# Altium schematic symbol library SCH - MCU - STM32 - ST MICROELECTRONICS STM32MP151AACX TFBGA361.SchLib: 1 symbol
Pins are listed as number, name and electrical type; pins without a type are passive.

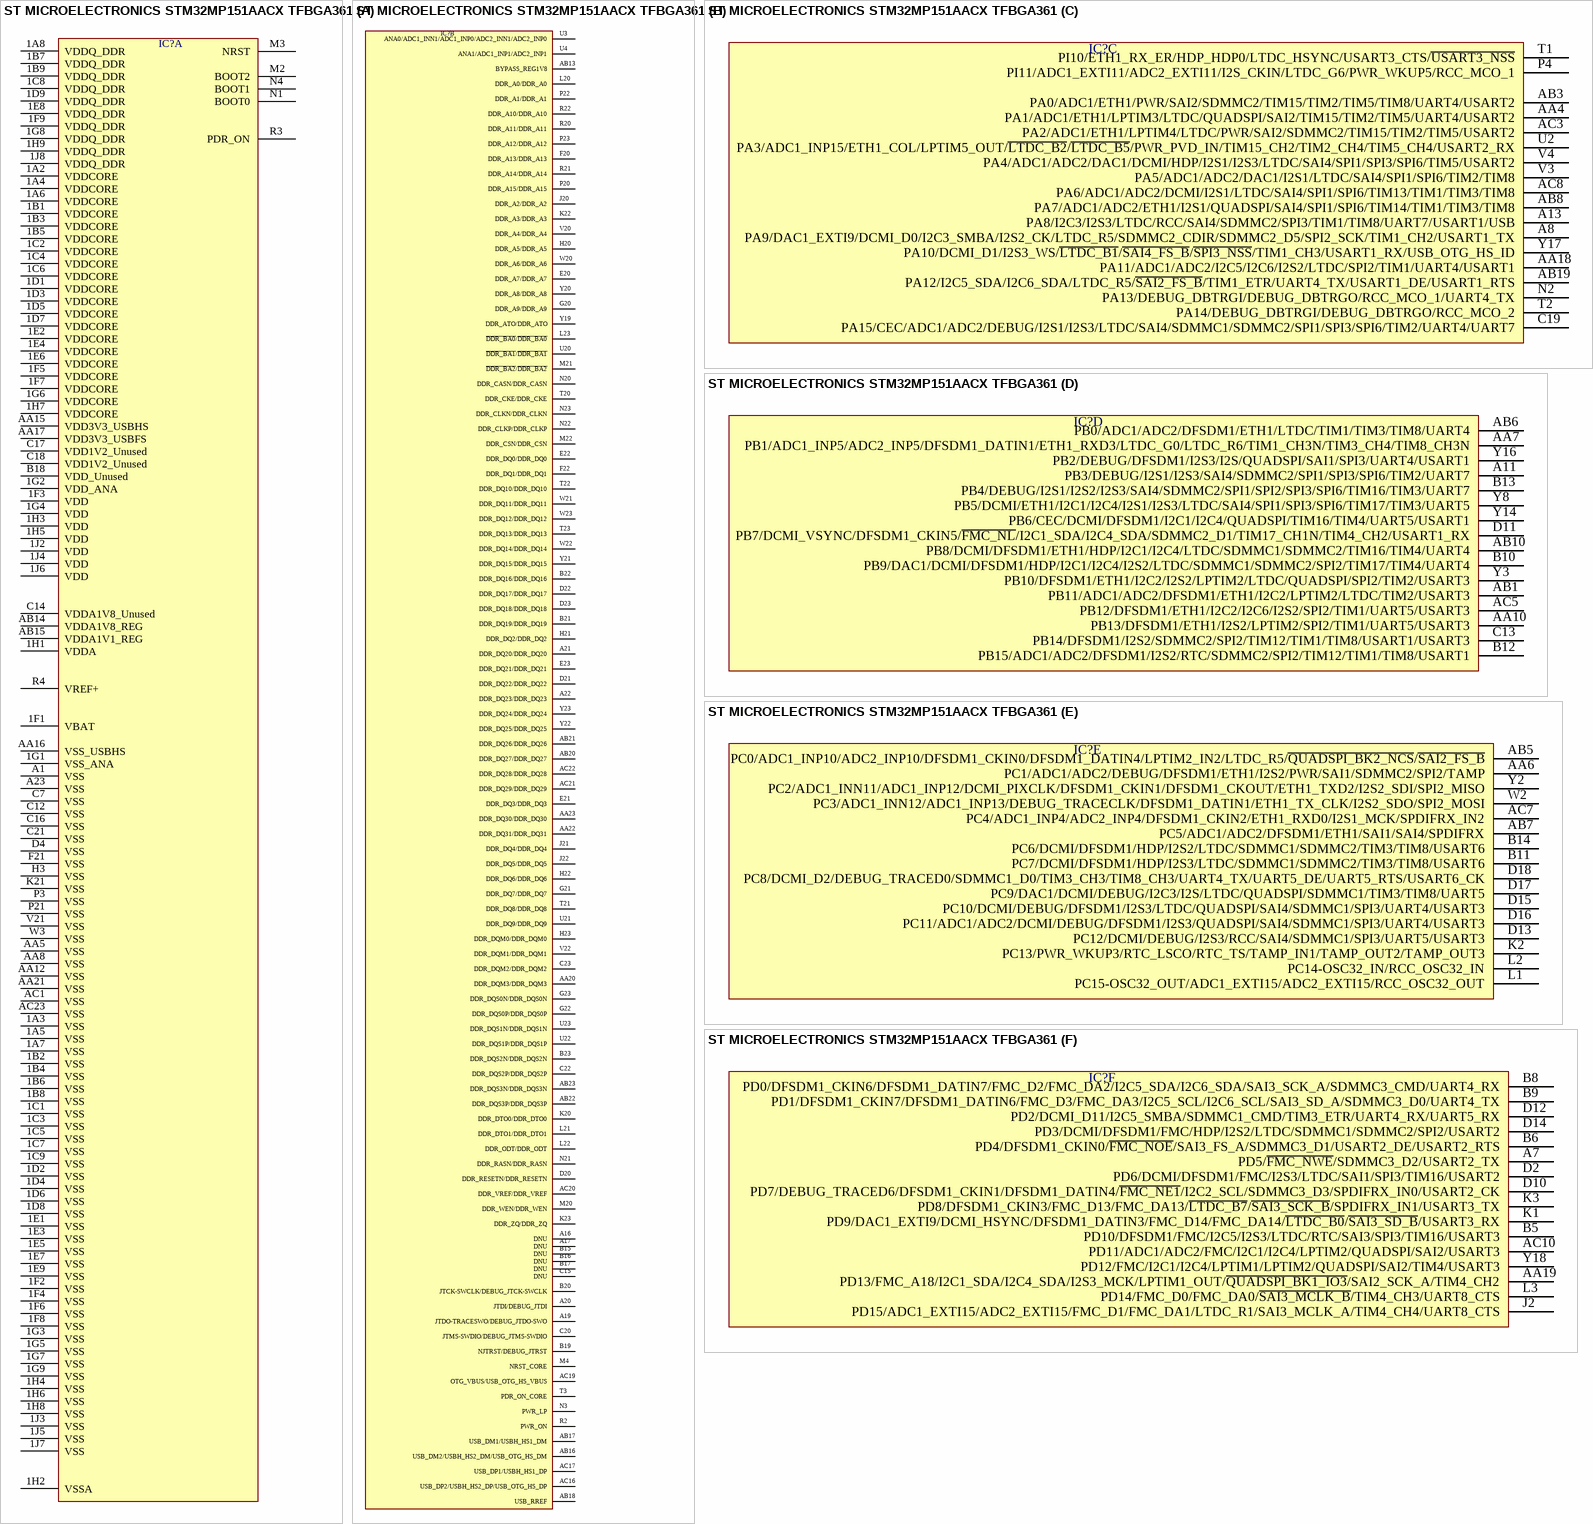
[diagram p0: symbol ST MICROELECTRONICS STM32MP151AACX TFBGA361]

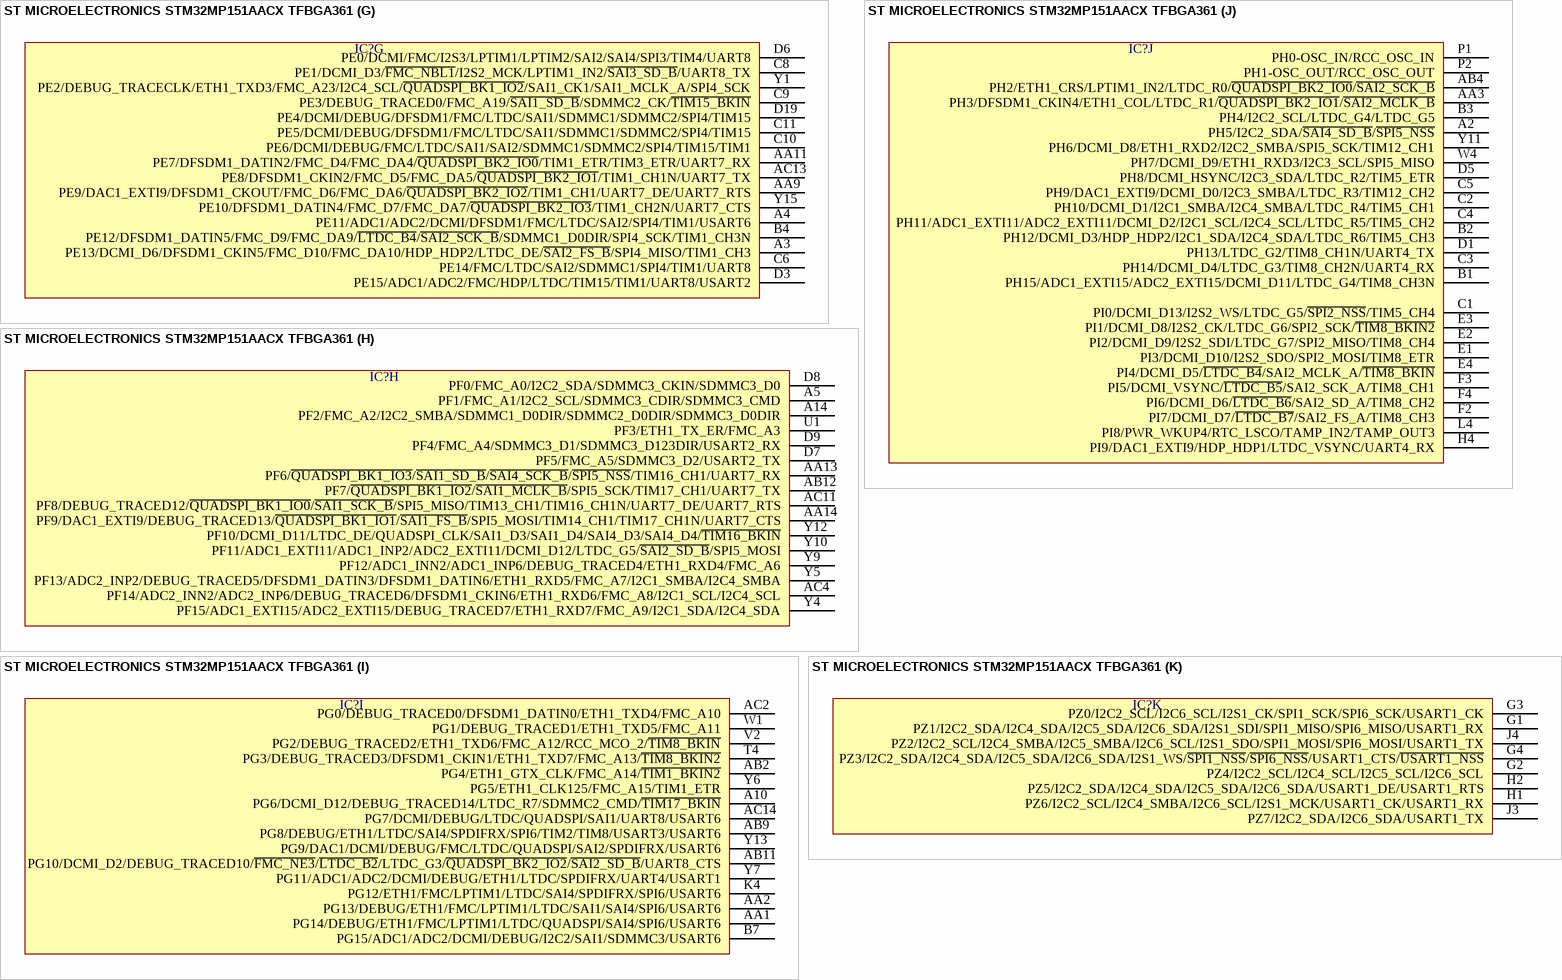
[diagram p1: symbol ST MICROELECTRONICS STM32MP151AACX TFBGA361]

## ST MICROELECTRONICS STM32MP151AACX TFBGA361
designator IC?  (value not drawn)
part A pins: 1A2 VDDCORE, 1A3 VSS, 1A4 VDDCORE, 1A5 VSS, 1A6 VDDCORE, 1A7 VSS, 1A8 VDDQ_DDR, 1B1 VDDCORE, 1B2 VSS, 1B3 VDDCORE, 1B4 VSS, 1B5 VDDCORE, 1B6 VSS, 1B7 VDDQ_DDR, 1B8 VSS, 1B9 VDDQ_DDR, 1C1 VSS, 1C2 VDDCORE, 1C3 VSS, 1C4 VDDCORE, 1C5 VSS, 1C6 VDDCORE, 1C7 VSS, 1C8 VDDQ_DDR, 1C9 VSS, 1D1 VDDCORE, 1D2 VSS, 1D3 VDDCORE, 1D4 VSS, 1D5 VDDCORE, 1D6 VSS, 1D7 VDDCORE, 1D8 VSS, 1D9 VDDQ_DDR, 1E1 VSS, 1E2 VDDCORE, 1E3 VSS, 1E4 VDDCORE, 1E5 VSS, 1E6 VDDCORE, 1E7 VSS, 1E8 VDDQ_DDR, 1E9 VSS, 1F1 VBAT, 1F2 VSS, 1F3 VDD, 1F4 VSS, 1F5 VDDCORE, 1F6 VSS, 1F7 VDDCORE, 1F8 VSS, 1F9 VDDQ_DDR, 1G1 VSS_ANA, 1G2 VDD_ANA, 1G3 VSS, 1G4 VDD, 1G5 VSS, 1G6 VDDCORE, 1G7 VSS, 1G8 VDDQ_DDR, 1G9 VSS, 1H1 VDDA, 1H2 VSSA, 1H3 VDD, 1H4 VSS, 1H5 VDD, 1H6 VSS, 1H7 VDDCORE, 1H8 VSS, 1H9 VDDQ_DDR, 1J2 VDD, 1J3 VSS, 1J4 VDD, 1J5 VSS, 1J6 VDD, 1J7 VSS, 1J8 VDDQ_DDR, A1 VSS, A23 VSS, AA5 VSS, AA8 VSS, AA12 VSS, AA15 VDD3V3_USBHS, AA16 VSS_USBHS, AA17 VDD3V3_USBFS, AA21 VSS, AB14 VDDA1V8_REG, AB15 VDDA1V1_REG, AC1 VSS, AC23 VSS, B18 VDD_Unused, C7 VSS, C12 VSS, C14 VDDA1V8_Unused, C16 VSS, C17 VDD1V2_Unused, C18 VDD1V2_Unused, C21 VSS, D4 VSS, F21 VSS, H3 VSS, K21 VSS, M2 BOOT2, M3 NRST, N1 BOOT0, N4 BOOT1, P3 VSS, P21 VSS, R3 PDR_ON, R4 VREF+, V21 VSS, W3 VSS
part B pins: A16 DNU, A17 DNU, A19 JTDO-TRACESWO/DEBUG_JTDO-SWO, A20 JTDI/DEBUG_JTDI, A21 DDR_DQ20/DDR_DQ20, A22 DDR_DQ23/DDR_DQ23, AA20 DDR_DQM3/DDR_DQM3, AA22 DDR_DQ31/DDR_DQ31, AA23 DDR_DQ30/DDR_DQ30, AB13 BYPASS_REG1V8, AB16 USB_DM2/USBH_HS2_DM/USB_OTG_HS_DM, AB17 USB_DM1/USBH_HS1_DM, AB18 USB_RREF, AB20 DDR_DQ27/DDR_DQ27, AB21 DDR_DQ26/DDR_DQ26, AB22 DDR_DQS3P/DDR_DQS3P, AB23 DDR_DQS3N/DDR_DQS3N, AC16 USB_DP2/USBH_HS2_DP/USB_OTG_HS_DP, AC17 USB_DP1/USBH_HS1_DP, AC19 OTG_VBUS/USB_OTG_HS_VBUS, AC20 DDR_VREF/DDR_VREF, AC21 DDR_DQ29/DDR_DQ29, AC22 DDR_DQ28/DDR_DQ28, B15 DNU, B16 DNU, B17 DNU, B19 NJTRST/DEBUG_JTRST, B20 JTCK-SWCLK/DEBUG_JTCK-SWCLK, B21 DDR_DQ19/DDR_DQ19, B22 DDR_DQ16/DDR_DQ16, B23 DDR_DQS2N/DDR_DQS2N, C15 DNU, C20 JTMS-SWDIO/DEBUG_JTMS-SWDIO, C22 DDR_DQS2P/DDR_DQS2P, C23 DDR_DQM2/DDR_DQM2, D20 DDR_RESETN/DDR_RESETN, D21 DDR_DQ22/DDR_DQ22, D22 DDR_DQ17/DDR_DQ17, D23 DDR_DQ18/DDR_DQ18, E20 DDR_A7/DDR_A7, E21 DDR_DQ3/DDR_DQ3, E22 DDR_DQ0/DDR_DQ0, E23 DDR_DQ21/DDR_DQ21, F20 DDR_A13/DDR_A13, F22 DDR_DQ1/DDR_DQ1, G20 DDR_A9/DDR_A9, G21 DDR_DQ7/DDR_DQ7, G22 DDR_DQS0P/DDR_DQS0P, G23 DDR_DQS0N/DDR_DQS0N, H20 DDR_A5/DDR_A5, H21 DDR_DQ2/DDR_DQ2, H22 DDR_DQ6/DDR_DQ6, H23 DDR_DQM0/DDR_DQM0, J20 DDR_A2/DDR_A2, J21 DDR_DQ4/DDR_DQ4, J22 DDR_DQ5/DDR_DQ5, K20 DDR_DTO0/DDR_DTO0, K22 DDR_A3/DDR_A3, K23 DDR_ZQ/DDR_ZQ, L20 DDR_A0/DDR_A0, L21 DDR_DTO1/DDR_DTO1, L22 DDR_ODT/DDR_ODT, L23 ~{DDR_BA0}/~{DDR_BA0}, M4 NRST_CORE, M20 DDR_WEN/DDR_WEN, M21 ~{DDR_BA2}/~{DDR_BA2}, M22 DDR_CSN/DDR_CSN, N3 PWR_LP, N20 DDR_CASN/DDR_CASN, N21 DDR_RASN/DDR_RASN, N22 DDR_CLKP/DDR_CLKP, N23 DDR_CLKN/DDR_CLKN, P20 DDR_A15/DDR_A15, P22 DDR_A1/DDR_A1, P23 DDR_A12/DDR_A12, R2 PWR_ON, R20 DDR_A11/DDR_A11, R21 DDR_A14/DDR_A14, R22 DDR_A10/DDR_A10, T3 PDR_ON_CORE, T20 DDR_CKE/DDR_CKE, T21 DDR_DQ8/DDR_DQ8, T22 DDR_DQ10/DDR_DQ10, T23 DDR_DQ13/DDR_DQ13, U3 ANA0/ADC1_INN1/ADC1_INP0/ADC2_INN1/ADC2_INP0, U4 ANA1/ADC1_INP1/ADC2_INP1, U20 ~{DDR_BA1}/~{DDR_BA1}, U21 DDR_DQ9/DDR_DQ9, U22 DDR_DQS1P/DDR_DQS1P, U23 DDR_DQS1N/DDR_DQS1N, V20 DDR_A4/DDR_A4, V22 DDR_DQM1/DDR_DQM1, W20 DDR_A6/DDR_A6, W21 DDR_DQ11/DDR_DQ11, W22 DDR_DQ14/DDR_DQ14, W23 DDR_DQ12/DDR_DQ12, Y19 DDR_ATO/DDR_ATO, Y20 DDR_A8/DDR_A8, Y21 DDR_DQ15/DDR_DQ15, Y22 DDR_DQ25/DDR_DQ25, Y23 DDR_DQ24/DDR_DQ24
part C pins: A8 PA9/DAC1_EXTI9/DCMI_D0/I2C3_SMBA/I2S2_CK/LTDC_R5/SDMMC2_CDIR/SDMMC2_D5/SPI2_SCK/TIM1_CH2/USART1_TX, A13 PA8/I2C3/I2S3/LTDC/RCC/SAI4/SDMMC2/SPI3/TIM1/TIM8/UART7/USART1/USB, AA4 PA1/ADC1/ETH1/LPTIM3/LTDC/QUADSPI/SAI2/TIM15/TIM2/TIM5/UART4/USART2, AA18 PA11/ADC1/ADC2/I2C5/I2C6/I2S2/LTDC/SPI2/TIM1/UART4/USART1, AB3 PA0/ADC1/ETH1/PWR/SAI2/SDMMC2/TIM15/TIM2/TIM5/TIM8/UART4/USART2, AB8 PA7/ADC1/ADC2/ETH1/I2S1/QUADSPI/SAI4/SPI1/SPI6/TIM14/TIM1/TIM3/TIM8, AB19 PA12/I2C5_SDA/I2C6_SDA/LTDC_R5/~{SAI2_FS_B}/TIM1_ETR/UART4_TX/USART1_DE/USART1_RTS, AC3 PA2/ADC1/ETH1/LPTIM4/LTDC/PWR/SAI2/SDMMC2/TIM15/TIM2/TIM5/USART2, AC8 PA6/ADC1/ADC2/DCMI/I2S1/LTDC/SAI4/SPI1/SPI6/TIM13/TIM1/TIM3/TIM8, C19 PA15/CEC/ADC1/ADC2/DEBUG/I2S1/I2S3/LTDC/SAI4/SDMMC1/SDMMC2/SPI1/SPI3/SPI6/TIM2/UART4/UART7, N2 PA13/DEBUG_DBTRGI/DEBUG_DBTRGO/RCC_MCO_1/UART4_TX, P4 PI11/ADC1_EXTI11/ADC2_EXTI11/I2S_CKIN/LTDC_G6/PWR_WKUP5/RCC_MCO_1, T1 PI10/ETH1_RX_ER/HDP_HDP0/LTDC_HSYNC/USART3_CTS/~{USART3_NSS}, T2 PA14/DEBUG_DBTRGI/DEBUG_DBTRGO/RCC_MCO_2, U2 PA3/ADC1_INP15/ETH1_COL/LPTIM5_OUT/~{LTDC_B2}/~{LTDC_B5}/PWR_PVD_IN/TIM15_CH2/TIM2_CH4/TIM5_CH4/USART2_RX, V3 PA5/ADC1/ADC2/DAC1/I2S1/LTDC/SAI4/SPI1/SPI6/TIM2/TIM8, V4 PA4/ADC1/ADC2/DAC1/DCMI/HDP/I2S1/I2S3/LTDC/SAI4/SPI1/SPI3/SPI6/TIM5/USART2, Y17 PA10/DCMI_D1/I2S3_WS/~{LTDC_B1}/~{SAI4_FS_B}/~{SPI3_NSS}/TIM1_CH3/USART1_RX/USB_OTG_HS_ID
part D pins: A11 PB3/DEBUG/I2S1/I2S3/SAI4/SDMMC2/SPI1/SPI3/SPI6/TIM2/UART7, AA7 PB1/ADC1_INP5/ADC2_INP5/DFSDM1_DATIN1/ETH1_RXD3/LTDC_G0/LTDC_R6/TIM1_CH3N/TIM3_CH4/TIM8_CH3N, AA10 PB13/DFSDM1/ETH1/I2S2/LPTIM2/SPI2/TIM1/UART5/USART3, AB1 PB11/ADC1/ADC2/DFSDM1/ETH1/I2C2/LPTIM2/LTDC/TIM2/USART3, AB6 PB0/ADC1/ADC2/DFSDM1/ETH1/LTDC/TIM1/TIM3/TIM8/UART4, AB10 PB8/DCMI/DFSDM1/ETH1/HDP/I2C1/I2C4/LTDC/SDMMC1/SDMMC2/TIM16/TIM4/UART4, AC5 PB12/DFSDM1/ETH1/I2C2/I2C6/I2S2/SPI2/TIM1/UART5/USART3, B10 PB9/DAC1/DCMI/DFSDM1/HDP/I2C1/I2C4/I2S2/LTDC/SDMMC1/SDMMC2/SPI2/TIM17/TIM4/UART4, B12 PB15/ADC1/ADC2/DFSDM1/I2S2/RTC/SDMMC2/SPI2/TIM12/TIM1/TIM8/USART1, B13 PB4/DEBUG/I2S1/I2S2/I2S3/SAI4/SDMMC2/SPI1/SPI2/SPI3/SPI6/TIM16/TIM3/UART7, C13 PB14/DFSDM1/I2S2/SDMMC2/SPI2/TIM12/TIM1/TIM8/USART1/USART3, D11 PB7/DCMI_VSYNC/DFSDM1_CKIN5/~{FMC_NL}/I2C1_SDA/I2C4_SDA/SDMMC2_D1/TIM17_CH1N/TIM4_CH2/USART1_RX, Y3 PB10/DFSDM1/ETH1/I2C2/I2S2/LPTIM2/LTDC/QUADSPI/SPI2/TIM2/USART3, Y8 PB5/DCMI/ETH1/I2C1/I2C4/I2S1/I2S3/LTDC/SAI4/SPI1/SPI3/SPI6/TIM17/TIM3/UART5, Y14 PB6/CEC/DCMI/DFSDM1/I2C1/I2C4/QUADSPI/TIM16/TIM4/UART5/USART1, Y16 PB2/DEBUG/DFSDM1/I2S3/I2S/QUADSPI/SAI1/SPI3/UART4/USART1
part E pins: AA6 PC1/ADC1/ADC2/DEBUG/DFSDM1/ETH1/I2S2/PWR/SAI1/SDMMC2/SPI2/TAMP, AB5 PC0/ADC1_INP10/ADC2_INP10/DFSDM1_CKIN0/DFSDM1_DATIN4/LPTIM2_IN2/LTDC_R5/~{QUADSPI_BK2_NCS}/~{SAI2_FS_B}, AB7 PC5/ADC1/ADC2/DFSDM1/ETH1/SAI1/SAI4/SPDIFRX, AC7 PC4/ADC1_INP4/ADC2_INP4/DFSDM1_CKIN2/ETH1_RXD0/I2S1_MCK/SPDIFRX_IN2, B11 PC7/DCMI/DFSDM1/HDP/I2S3/LTDC/SDMMC1/SDMMC2/TIM3/TIM8/USART6, B14 PC6/DCMI/DFSDM1/HDP/I2S2/LTDC/SDMMC1/SDMMC2/TIM3/TIM8/USART6, D13 PC12/DCMI/DEBUG/I2S3/RCC/SAI4/SDMMC1/SPI3/UART5/USART3, D15 PC10/DCMI/DEBUG/DFSDM1/I2S3/LTDC/QUADSPI/SAI4/SDMMC1/SPI3/UART4/USART3, D16 PC11/ADC1/ADC2/DCMI/DEBUG/DFSDM1/I2S3/QUADSPI/SAI4/SDMMC1/SPI3/UART4/USART3, D17 PC9/DAC1/DCMI/DEBUG/I2C3/I2S/LTDC/QUADSPI/SDMMC1/TIM3/TIM8/UART5, D18 PC8/DCMI_D2/DEBUG_TRACED0/SDMMC1_D0/TIM3_CH3/TIM8_CH3/UART4_TX/UART5_DE/UART5_RTS/USART6_CK, K2 PC13/PWR_WKUP3/RTC_LSCO/RTC_TS/TAMP_IN1/TAMP_OUT2/TAMP_OUT3, L1 PC15-OSC32_OUT/ADC1_EXTI15/ADC2_EXTI15/RCC_OSC32_OUT, L2 PC14-OSC32_IN/RCC_OSC32_IN, W2 PC3/ADC1_INN12/ADC1_INP13/DEBUG_TRACECLK/DFSDM1_DATIN1/ETH1_TX_CLK/I2S2_SDO/SPI2_MOSI, Y2 PC2/ADC1_INN11/ADC1_INP12/DCMI_PIXCLK/DFSDM1_CKIN1/DFSDM1_CKOUT/ETH1_TXD2/I2S2_SDI/SPI2_MISO
part F pins: A7 PD5/~{FMC_NWE}/SDMMC3_D2/USART2_TX, AA19 PD13/FMC_A18/I2C1_SDA/I2C4_SDA/I2S3_MCK/LPTIM1_OUT/~{QUADSPI_BK1_IO3}/SAI2_SCK_A/TIM4_CH2, AC10 PD11/ADC1/ADC2/FMC/I2C1/I2C4/LPTIM2/QUADSPI/SAI2/USART3, B5 PD10/DFSDM1/FMC/I2C5/I2S3/LTDC/RTC/SAI3/SPI3/TIM16/USART3, B6 PD4/DFSDM1_CKIN0/~{FMC_NOE}/SAI3_FS_A/SDMMC3_D1/USART2_DE/USART2_RTS, B8 PD0/DFSDM1_CKIN6/DFSDM1_DATIN7/FMC_D2/FMC_DA2/I2C5_SDA/I2C6_SDA/SAI3_SCK_A/SDMMC3_CMD/UART4_RX, B9 PD1/DFSDM1_CKIN7/DFSDM1_DATIN6/FMC_D3/FMC_DA3/I2C5_SCL/I2C6_SCL/SAI3_SD_A/SDMMC3_D0/UART4_TX, D2 PD6/DCMI/DFSDM1/FMC/I2S3/LTDC/SAI1/SPI3/TIM16/USART2, D10 PD7/DEBUG_TRACED6/DFSDM1_CKIN1/DFSDM1_DATIN4/~{FMC_NE1}/I2C2_SCL/SDMMC3_D3/SPDIFRX_IN0/USART2_CK, D12 PD2/DCMI_D11/I2C5_SMBA/SDMMC1_CMD/TIM3_ETR/UART4_RX/UART5_RX, D14 PD3/DCMI/DFSDM1/FMC/HDP/I2S2/LTDC/SDMMC1/SDMMC2/SPI2/USART2, J2 PD15/ADC1_EXTI15/ADC2_EXTI15/FMC_D1/FMC_DA1/LTDC_R1/SAI3_MCLK_A/TIM4_CH4/UART8_CTS, K1 PD9/DAC1_EXTI9/DCMI_HSYNC/DFSDM1_DATIN3/FMC_D14/FMC_DA14/~{LTDC_B0}/~{SAI3_SD_B}/USART3_RX, K3 PD8/DFSDM1_CKIN3/FMC_D13/FMC_DA13/~{LTDC_B7}/~{SAI3_SCK_B}/SPDIFRX_IN1/USART3_TX, L3 PD14/FMC_D0/FMC_DA0/~{SAI3_MCLK_B}/TIM4_CH3/UART8_CTS, Y18 PD12/FMC/I2C1/I2C4/LPTIM1/LPTIM2/QUADSPI/SAI2/TIM4/USART3
part G pins: A3 PE13/DCMI_D6/DFSDM1_CKIN5/FMC_D10/FMC_DA10/HDP_HDP2/LTDC_DE/~{SAI2_FS_B}/SPI4_MISO/TIM1_CH3, A4 PE11/ADC1/ADC2/DCMI/DFSDM1/FMC/LTDC/SAI2/SPI4/TIM1/USART6, AA9 PE9/DAC1_EXTI9/DFSDM1_CKOUT/FMC_D6/FMC_DA6/~{QUADSPI_BK2_IO2}/TIM1_CH1/UART7_DE/UART7_RTS, AA11 PE7/DFSDM1_DATIN2/FMC_D4/FMC_DA4/~{QUADSPI_BK2_IO0}/TIM1_ETR/TIM3_ETR/UART7_RX, AC13 PE8/DFSDM1_CKIN2/FMC_D5/FMC_DA5/~{QUADSPI_BK2_IO1}/TIM1_CH1N/UART7_TX, B4 PE12/DFSDM1_DATIN5/FMC_D9/FMC_DA9/~{LTDC_B4}/~{SAI2_SCK_B}/SDMMC1_D0DIR/SPI4_SCK/TIM1_CH3N, C6 PE14/FMC/LTDC/SAI2/SDMMC1/SPI4/TIM1/UART8, C8 PE1/DCMI_D3/~{FMC_NBL1}/I2S2_MCK/LPTIM1_IN2/~{SAI3_SD_B}/UART8_TX, C9 PE3/DEBUG_TRACED0/FMC_A19/~{SAI1_SD_B}/SDMMC2_CK/~{TIM15_BKIN}, C10 PE6/DCMI/DEBUG/FMC/LTDC/SAI1/SAI2/SDMMC1/SDMMC2/SPI4/TIM15/TIM1, C11 PE5/DCMI/DEBUG/DFSDM1/FMC/LTDC/SAI1/SDMMC1/SDMMC2/SPI4/TIM15, D3 PE15/ADC1/ADC2/FMC/HDP/LTDC/TIM15/TIM1/UART8/USART2, D6 PE0/DCMI/FMC/I2S3/LPTIM1/LPTIM2/SAI2/SAI4/SPI3/TIM4/UART8, D19 PE4/DCMI/DEBUG/DFSDM1/FMC/LTDC/SAI1/SDMMC1/SDMMC2/SPI4/TIM15, Y1 PE2/DEBUG_TRACECLK/ETH1_TXD3/FMC_A23/I2C4_SCL/~{QUADSPI_BK1_IO2}/SAI1_CK1/SAI1_MCLK_A/SPI4_SCK, Y15 PE10/DFSDM1_DATIN4/FMC_D7/FMC_DA7/~{QUADSPI_BK2_IO3}/TIM1_CH2N/UART7_CTS
part H pins: A5 PF1/FMC_A1/I2C2_SCL/SDMMC3_CDIR/SDMMC3_CMD, A14 PF2/FMC_A2/I2C2_SMBA/SDMMC1_D0DIR/SDMMC2_D0DIR/SDMMC3_D0DIR, AA13 PF6/~{QUADSPI_BK1_IO3}/~{SAI1_SD_B}/~{SAI4_SCK_B}/~{SPI5_NSS}/TIM16_CH1/UART7_RX, AA14 PF9/DAC1_EXTI9/DEBUG_TRACED13/~{QUADSPI_BK1_IO1}/~{SAI1_FS_B}/SPI5_MOSI/TIM14_CH1/TIM17_CH1N/UART7_CTS, AB12 PF7/~{QUADSPI_BK1_IO2}/~{SAI1_MCLK_B}/SPI5_SCK/TIM17_CH1/UART7_TX, AC4 PF14/ADC2_INN2/ADC2_INP6/DEBUG_TRACED6/DFSDM1_CKIN6/ETH1_RXD6/FMC_A8/I2C1_SCL/I2C4_SCL, AC11 PF8/DEBUG_TRACED12/~{QUADSPI_BK1_IO0}/~{SAI1_SCK_B}/SPI5_MISO/TIM13_CH1/TIM16_CH1N/UART7_DE/UART7_RTS, D7 PF5/FMC_A5/SDMMC3_D2/USART2_TX, D8 PF0/FMC_A0/I2C2_SDA/SDMMC3_CKIN/SDMMC3_D0, D9 PF4/FMC_A4/SDMMC3_D1/SDMMC3_D123DIR/USART2_RX, U1 PF3/ETH1_TX_ER/FMC_A3, Y4 PF15/ADC1_EXTI15/ADC2_EXTI15/DEBUG_TRACED7/ETH1_RXD7/FMC_A9/I2C1_SDA/I2C4_SDA, Y5 PF13/ADC2_INP2/DEBUG_TRACED5/DFSDM1_DATIN3/DFSDM1_DATIN6/ETH1_RXD5/FMC_A7/I2C1_SMBA/I2C4_SMBA, Y9 PF12/ADC1_INN2/ADC1_INP6/DEBUG_TRACED4/ETH1_RXD4/FMC_A6, Y10 PF11/ADC1_EXTI11/ADC1_INP2/ADC2_EXTI11/DCMI_D12/LTDC_G5/~{SAI2_SD_B}/SPI5_MOSI, Y12 PF10/DCMI_D11/LTDC_DE/QUADSPI_CLK/SAI1_D3/SAI1_D4/SAI4_D3/SAI4_D4/~{TIM16_BKIN}
part I pins: A10 PG6/DCMI_D12/DEBUG_TRACED14/LTDC_R7/SDMMC2_CMD/~{TIM17_BKIN}, AA1 PG14/DEBUG/ETH1/FMC/LPTIM1/LTDC/QUADSPI/SAI4/SPI6/USART6, AA2 PG13/DEBUG/ETH1/FMC/LPTIM1/LTDC/SAI1/SAI4/SPI6/USART6, AB2 PG4/ETH1_GTX_CLK/FMC_A14/~{TIM1_BKIN2}, AB9 PG8/DEBUG/ETH1/LTDC/SAI4/SPDIFRX/SPI6/TIM2/TIM8/USART3/USART6, AB11 PG10/DCMI_D2/DEBUG_TRACED10/~{FMC_NE3}/~{LTDC_B2}/LTDC_G3/~{QUADSPI_BK2_IO2}/~{SAI2_SD_B}/UART8_CTS, AC2 PG0/DEBUG_TRACED0/DFSDM1_DATIN0/ETH1_TXD4/FMC_A10, AC14 PG7/DCMI/DEBUG/LTDC/QUADSPI/SAI1/UART8/USART6, B7 PG15/ADC1/ADC2/DCMI/DEBUG/I2C2/SAI1/SDMMC3/USART6, K4 PG12/ETH1/FMC/LPTIM1/LTDC/SAI4/SPDIFRX/SPI6/USART6, T4 PG3/DEBUG_TRACED3/DFSDM1_CKIN1/ETH1_TXD7/FMC_A13/~{TIM8_BKIN2}, V2 PG2/DEBUG_TRACED2/ETH1_TXD6/FMC_A12/RCC_MCO_2/~{TIM8_BKIN}, W1 PG1/DEBUG_TRACED1/ETH1_TXD5/FMC_A11, Y6 PG5/ETH1_CLK125/FMC_A15/TIM1_ETR, Y7 PG11/ADC1/ADC2/DCMI/DEBUG/ETH1/LTDC/SPDIFRX/UART4/USART1, Y13 PG9/DAC1/DCMI/DEBUG/FMC/LTDC/QUADSPI/SAI2/SPDIFRX/USART6
part J pins: A2 PH5/I2C2_SDA/~{SAI4_SD_B}/~{SPI5_NSS}, AA3 PH3/DFSDM1_CKIN4/ETH1_COL/LTDC_R1/~{QUADSPI_BK2_IO1}/~{SAI2_MCLK_B}, AB4 PH2/ETH1_CRS/LPTIM1_IN2/LTDC_R0/~{QUADSPI_BK2_IO0}/~{SAI2_SCK_B}, B1 PH15/ADC1_EXTI15/ADC2_EXTI15/DCMI_D11/LTDC_G4/TIM8_CH3N, B2 PH12/DCMI_D3/HDP_HDP2/I2C1_SDA/I2C4_SDA/LTDC_R6/TIM5_CH3, B3 PH4/I2C2_SCL/LTDC_G4/LTDC_G5, C1 PI0/DCMI_D13/I2S2_WS/LTDC_G5/~{SPI2_NSS}/TIM5_CH4, C2 PH10/DCMI_D1/I2C1_SMBA/I2C4_SMBA/LTDC_R4/TIM5_CH1, C3 PH14/DCMI_D4/LTDC_G3/TIM8_CH2N/UART4_RX, C4 PH11/ADC1_EXTI11/ADC2_EXTI11/DCMI_D2/I2C1_SCL/I2C4_SCL/LTDC_R5/TIM5_CH2, C5 PH9/DAC1_EXTI9/DCMI_D0/I2C3_SMBA/LTDC_R3/TIM12_CH2, D1 PH13/LTDC_G2/TIM8_CH1N/UART4_TX, D5 PH8/DCMI_HSYNC/I2C3_SDA/LTDC_R2/TIM5_ETR, E1 PI3/DCMI_D10/I2S2_SDO/SPI2_MOSI/TIM8_ETR, E2 PI2/DCMI_D9/I2S2_SDI/LTDC_G7/SPI2_MISO/TIM8_CH4, E3 PI1/DCMI_D8/I2S2_CK/LTDC_G6/SPI2_SCK/~{TIM8_BKIN2}, E4 PI4/DCMI_D5/~{LTDC_B4}/SAI2_MCLK_A/~{TIM8_BKIN}, F2 PI7/DCMI_D7/~{LTDC_B7}/SAI2_FS_A/TIM8_CH3, F3 PI5/DCMI_VSYNC/~{LTDC_B5}/SAI2_SCK_A/TIM8_CH1, F4 PI6/DCMI_D6/~{LTDC_B6}/SAI2_SD_A/TIM8_CH2, H4 PI9/DAC1_EXTI9/HDP_HDP1/LTDC_VSYNC/UART4_RX, L4 PI8/PWR_WKUP4/RTC_LSCO/TAMP_IN2/TAMP_OUT3, P1 PH0-OSC_IN/RCC_OSC_IN, P2 PH1-OSC_OUT/RCC_OSC_OUT, W4 PH7/DCMI_D9/ETH1_RXD3/I2C3_SCL/SPI5_MISO, Y11 PH6/DCMI_D8/ETH1_RXD2/I2C2_SMBA/SPI5_SCK/TIM12_CH1
part K pins: G1 PZ1/I2C2_SDA/I2C4_SDA/I2C5_SDA/I2C6_SDA/I2S1_SDI/SPI1_MISO/SPI6_MISO/USART1_RX, G2 PZ4/I2C2_SCL/I2C4_SCL/I2C5_SCL/I2C6_SCL, G3 PZ0/I2C2_SCL/I2C6_SCL/I2S1_CK/SPI1_SCK/SPI6_SCK/USART1_CK, G4 PZ3/I2C2_SDA/I2C4_SDA/I2C5_SDA/I2C6_SDA/I2S1_WS/~{SPI1_NSS}/~{SPI6_NSS}/USART1_CTS/~{USART1_NSS}, H1 PZ6/I2C2_SCL/I2C4_SMBA/I2C6_SCL/I2S1_MCK/USART1_CK/USART1_RX, H2 PZ5/I2C2_SDA/I2C4_SDA/I2C5_SDA/I2C6_SDA/USART1_DE/USART1_RTS, J3 PZ7/I2C2_SDA/I2C6_SDA/USART1_TX, J4 PZ2/I2C2_SCL/I2C4_SMBA/I2C5_SMBA/I2C6_SCL/I2S1_SDO/SPI1_MOSI/SPI6_MOSI/USART1_TX